# Altium footprint library TSOP (~0.6mm Pitch).PcbLib: 21 footprints (part 1 of 2)
Each footprint in its own frame and in the unit in brackets; x right, y up, seen from the top. Pads: shape width x height; smd on the part's side, far side on the other; paste and mask are expansions set on the pad; w line width, h text height; cw(c..) or ccw(c..) is an arc to the next point about the centre after c.
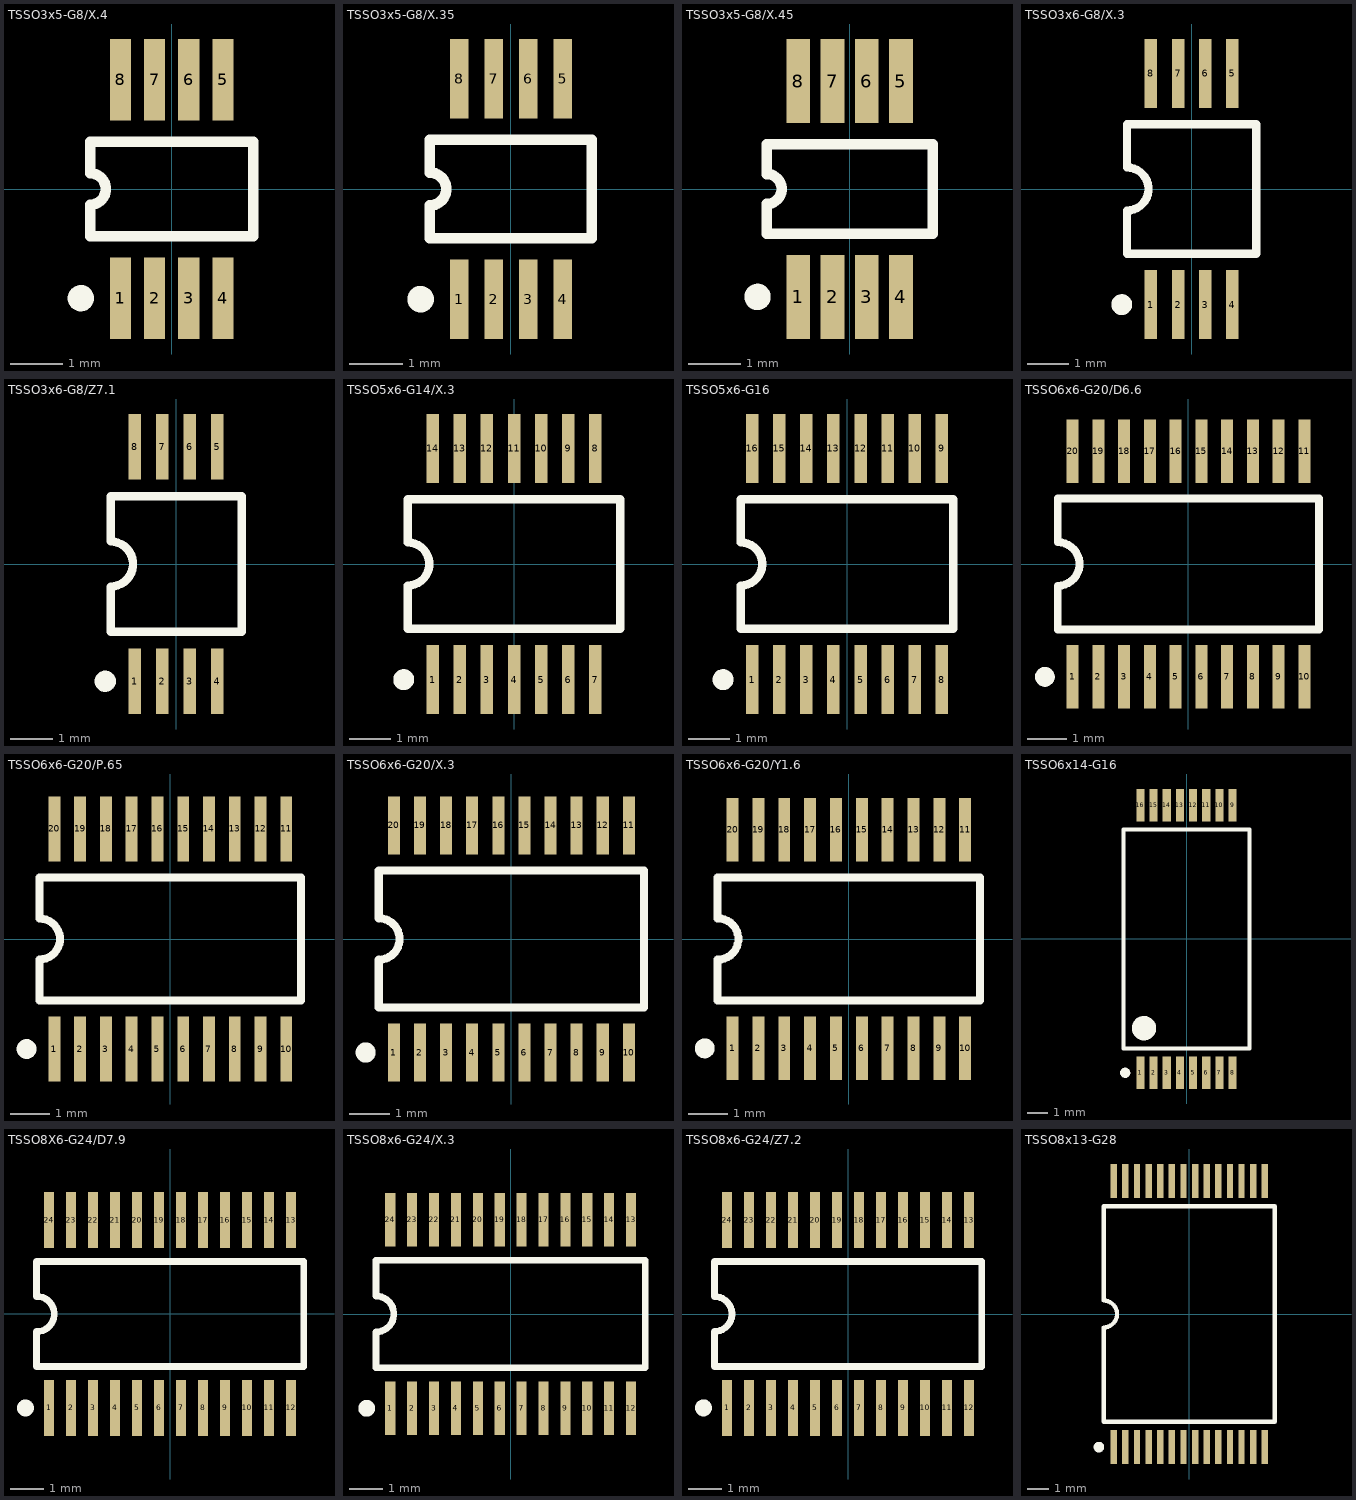
[diagram p0: the footprints below, top view; thin cyan lines are the x and y axes]

## TSSO3x5-G8/X.4 [mm] "Shrink Small Outline, MSOP; 8 Leads; Body Width 3 mm; Pitch 0.65 mm"
height 1.1
pads (8):
  rect 0.4x1.55 smd: 1(-0.975,-2.075) 2(-0.325,-2.075) 3(0.325,-2.075) 4(0.975,-2.075) 5(0.975,2.075) 6(0.325,2.075) 7(-0.325,2.075) 8(-0.975,2.075)
Top Overlay:
  circle w0.25: c-1.725,-2.075 r0.125
  lines w0.2: -1.55,-0.9 1.55,-0.9 1.55,0.9 -1.55,0.9 -1.55,0.3 cw(c-1.55,0) -1.55,-0.3 -1.55,-0.9

## TSSO3x5-G8/X.35 [mm] "Shrink Small Outline; 8 Leads; Body Width 3 mm; Pitch 0.65 mm"
height 1.11
pads (8):
  rect 0.35x1.5 smd: 1(-0.975,-2.075) 2(-0.325,-2.075) 3(0.325,-2.075) 4(0.975,-2.075) 5(0.975,2.075) 6(0.325,2.075) 7(-0.325,2.075) 8(-0.975,2.075)
Top Overlay:
  circle w0.25: c-1.7,-2.075 r0.125
  lines w0.2: -1.525,-0.925 1.525,-0.925 1.525,0.925 -1.525,0.925 -1.525,0.308 cw(c-1.525,0) -1.525,-0.308 -1.525,-0.925

## TSSO3x5-G8/X.45 [mm] "Shrink Small Outline; 8 Leads; Body Width 3 mm; Pitch 0.65 mm"
height 1.1
pads (8):
  rect 0.45x1.6 smd: 1(-0.975,-2.05) 2(-0.325,-2.05) 3(0.325,-2.05) 4(0.975,-2.05) 5(0.975,2.05) 6(0.325,2.05) 7(-0.325,2.05) 8(-0.975,2.05)
Top Overlay:
  circle w0.25: c-1.75,-2.05 r0.125
  lines w0.2: -1.575,-0.85 -1.575,-0.283 ccw(c-1.575,0) -1.575,0.283 -1.575,0.85 1.575,0.85 1.575,-0.85 -1.575,-0.85

## TSSO3x6-G8/X.3 [mm] "Shrink Small Outline; 8 Leads; Body Width 4.4 mm; Pitch 0.65 mm"
height 1.2
pads (8):
  rect 0.3x1.65 smd: 1(-0.975,-2.775) 2(-0.325,-2.775) 3(0.325,-2.775) 4(0.975,-2.775) 5(0.975,2.775) 6(0.325,2.775) 7(-0.325,2.775) 8(-0.975,2.775)
Top Overlay:
  circle w0.25: c-1.675,-2.775 r0.125
  lines w0.2: -1.55,-1.55 1.55,-1.55 1.55,1.55 -1.55,1.55 -1.55,0.517 cw(c-1.55,0) -1.55,-0.517 -1.55,-1.55

## TSSO3x6-G8/Z7.1 [mm] "Shrink Small Outline; 8 Leads; Body Width 4.4 mm; Pitch 0.65 mm"
height 1.1
pads (8):
  rect 0.3x1.55 smd: 1(-0.975,-2.775) 2(-0.325,-2.775) 3(0.325,-2.775) 4(0.975,-2.775) 5(0.975,2.775) 6(0.325,2.775) 7(-0.325,2.775) 8(-0.975,2.775)
Top Overlay:
  circle w0.25: c-1.675,-2.775 r0.125
  lines w0.2: -1.55,-1.6 1.55,-1.6 1.55,1.6 -1.55,1.6 -1.55,0.533 cw(c-1.55,0) -1.55,-0.533 -1.55,-1.6

## TSSO5x6-G14/X.3 [mm] "Shrink Small Outline, TSSOP; 14 Leads; Body Width 4.4 mm; Pitch 0.65 mm"
height 1.2
pads (14):
  rect 0.3x1.65 smd: 1(-1.95,-2.775) 2(-1.3,-2.775) 3(-0.65,-2.775) 4(0,-2.775) 5(0.65,-2.775) 6(1.3,-2.775) 7(1.95,-2.775) 8(1.95,2.775) 9(1.3,2.775) 10(0.65,2.775) 11(0,2.775) 12(-0.65,2.775) 13(-1.3,2.775) 14(-1.95,2.775)
Top Overlay:
  circle w0.25: c-2.65,-2.775 r0.125
  lines w0.2: -2.55,-1.55 2.55,-1.55 2.55,1.55 -2.55,1.55 -2.55,0.517 cw(c-2.55,0) -2.55,-0.517 -2.55,-1.55

## TSSO5x6-G16 [mm] "Shrink Small Outline; 16 Leads; Body Width 4.4 mm; Pitch 0.65 mm"
height 1.1
pads (16):
  rect 0.3x1.65 smd: 1(-2.275,-2.775) 2(-1.625,-2.775) 3(-0.975,-2.775) 4(-0.325,-2.775) 5(0.325,-2.775) 6(0.975,-2.775) 7(1.625,-2.775) 8(2.275,-2.775) 9(2.275,2.775) 10(1.625,2.775) 11(0.975,2.775) 12(0.325,2.775) 13(-0.325,2.775) 14(-0.975,2.775) 15(-1.625,2.775) 16(-2.275,2.775)
Top Overlay:
  circle w0.25: c-2.975,-2.775 r0.125
  lines w0.2: -2.55,-1.55 -2.55,-0.517 ccw(c-2.55,0) -2.55,0.517 -2.55,1.55 2.55,1.55 2.55,-1.55 -2.55,-1.55

## TSSO6x6-G20/D6.6 [mm] "Shrink Small Outline; 20 Leads; Body Width 4.4 mm; Pitch 0.65 mm"
height 1.1
pads (20):
  rect 0.3x1.6 smd: 1(-2.925,-2.85) 2(-2.275,-2.85) 3(-1.625,-2.85) 4(-0.975,-2.85) 5(-0.325,-2.85) 6(0.325,-2.85) 7(0.975,-2.85) 8(1.625,-2.85) 9(2.275,-2.85) 10(2.925,-2.85) 11(2.925,2.85) 12(2.275,2.85) 13(1.625,2.85) 14(0.975,2.85) 15(0.325,2.85) 16(-0.325,2.85) 17(-0.975,2.85) 18(-1.625,2.85) 19(-2.275,2.85) 20(-2.925,2.85)
Top Overlay:
  circle w0.25: c-3.625,-2.85 r0.125
  lines w0.2: -3.3,-1.65 -3.3,-0.55 ccw(c-3.3,0) -3.3,0.55 -3.3,1.65 3.3,1.65 3.3,-1.65 -3.3,-1.65

## TSSO6x6-G20/P.65 [mm] "Shrink Small Outline; 20 Leads; Body Width 4.4 mm; Pitch 0.65 mm"
height 1.2
pads (20):
  rect 0.3x1.65 smd: 1(-2.925,-2.775) 2(-2.275,-2.775) 3(-1.625,-2.775) 4(-0.975,-2.775) 5(-0.325,-2.775) 6(0.325,-2.775) 7(0.975,-2.775) 8(1.625,-2.775) 9(2.275,-2.775) 10(2.925,-2.775) 11(2.925,2.775) 12(2.275,2.775) 13(1.625,2.775) 14(0.975,2.775) 15(0.325,2.775) 16(-0.325,2.775) 17(-0.975,2.775) 18(-1.625,2.775) 19(-2.275,2.775) 20(-2.925,2.775)
Top Overlay:
  circle w0.25: c-3.625,-2.775 r0.125
  lines w0.2: -3.3,-1.55 -3.3,-0.517 ccw(c-3.3,0) -3.3,0.517 -3.3,1.55 3.3,1.55 3.3,-1.55 -3.3,-1.55

## TSSO6x6-G20/X.3 [mm] "Shrink Small Outline; 20 Leads; Body Width 4.4 mm; Pitch 0.65 mm"
height 1.2
pads (20):
  rect 0.3x1.45 smd: 1(-2.925,-2.825) 2(-2.275,-2.825) 3(-1.625,-2.825) 4(-0.975,-2.825) 5(-0.325,-2.825) 6(0.325,-2.825) 7(0.975,-2.825) 8(1.625,-2.825) 9(2.275,-2.825) 10(2.925,-2.825) 11(2.925,2.825) 12(2.275,2.825) 13(1.625,2.825) 14(0.975,2.825) 15(0.325,2.825) 16(-0.325,2.825) 17(-0.975,2.825) 18(-1.625,2.825) 19(-2.275,2.825) 20(-2.925,2.825)
Top Overlay:
  circle w0.25: c-3.625,-2.825 r0.125
  lines w0.2: -3.3,-0.52 -3.3,-1.7 3.3,-1.7 3.3,1.7 -3.3,1.7 -3.3,0.52 ; -3.3,-0.517 ccw(c-3.3,0) -3.3,0.517

## TSSO6x6-G20/Y1.6 [mm] "Shrink Small Outline; 20 Leads; Body Width 4.4 mm; Pitch 0.65 mm"
height 1.1
pads (20):
  rect 0.3x1.6 smd: 1(-2.925,-2.75) 2(-2.275,-2.75) 3(-1.625,-2.75) 4(-0.975,-2.75) 5(-0.325,-2.75) 6(0.325,-2.75) 7(0.975,-2.75) 8(1.625,-2.75) 9(2.275,-2.75) 10(2.925,-2.75) 11(2.925,2.75) 12(2.275,2.75) 13(1.625,2.75) 14(0.975,2.75) 15(0.325,2.75) 16(-0.325,2.75) 17(-0.975,2.75) 18(-1.625,2.75) 19(-2.275,2.75) 20(-2.925,2.75)
Top Overlay:
  circle w0.25: c-3.625,-2.75 r0.125
  lines w0.2: -3.3,-1.55 3.3,-1.55 3.3,1.55 -3.3,1.55 -3.3,0.52 cw(c-3.3,0) -3.3,-0.52 -3.3,-1.55

## TSSO6x14-G16 [mm] "Shrink Small Outline; 16 Leads; Body Width 12.4 mm; Pitch 0.65 mm"
height 1.27
pads (16):
  rect 0.4x1.6 smd: 1(-2.275,-6.6) 2(-1.625,-6.6) 3(-0.975,-6.6) 4(-0.325,-6.6) 5(0.325,-6.6) 6(0.975,-6.6) 7(1.625,-6.6) 8(2.275,-6.6) 9(2.275,6.6) 10(1.625,6.6) 11(0.975,6.6) 12(0.325,6.6) 13(-0.325,6.6) 14(-0.975,6.6) 15(-1.625,6.6) 16(-2.275,6.6)
Top Overlay:
  circle w0.6: c-2.1,-4.4 r0.3
  circle w0.25: c-3.025,-6.6 r0.125
  lines w0.2: -3.1,-5.4 3.1,-5.4 3.1,5.4 -3.1,5.4 -3.1,-0.635 -3.1,-5.4

## TSSO8X6-G24/D7.9 [mm]
pads (24):
  rect 0.3x1.65 smd: 1(-3.575,-2.775) 2(-2.925,-2.775) 3(-2.275,-2.775) 4(-1.625,-2.775) 5(-0.975,-2.775) 6(-0.325,-2.775) 7(0.325,-2.775) 8(0.975,-2.775) 9(1.625,-2.775) 10(2.275,-2.775) 11(2.925,-2.775) 12(3.575,-2.775) 13(3.575,2.775) 14(2.925,2.775) 15(2.275,2.775) 16(1.625,2.775) 17(0.975,2.775) 18(0.325,2.775) 19(-0.325,2.775) 20(-0.975,2.775) 21(-1.625,2.775) 22(-2.275,2.775) 23(-2.925,2.775) 24(-3.575,2.775)
Top Overlay:
  circle w0.25: c-4.275,-2.775 r0.125
  lines w0.2: -3.95,-0.52 -3.95,-1.55 3.95,-1.55 3.95,1.55 -3.95,1.55 -3.95,0.52 ; -3.943,-0.52 ccw(c-3.943,0) -3.943,0.52

## TSSO8x6-G24/X.3 [mm] "Shrink Small Outline; 24 Leads; Body Width 4.4 mm; Pitch 0.65 mm"
height 1.1
pads (24):
  rect 0.3x1.6 smd: 1(-3.575,-2.8) 2(-2.925,-2.8) 3(-2.275,-2.8) 4(-1.625,-2.8) 5(-0.975,-2.8) 6(-0.325,-2.8) 7(0.325,-2.8) 8(0.975,-2.8) 9(1.625,-2.8) 10(2.275,-2.8) 11(2.925,-2.8) 12(3.575,-2.8) 13(3.575,2.8) 14(2.925,2.8) 15(2.275,2.8) 16(1.625,2.8) 17(0.975,2.8) 18(0.325,2.8) 19(-0.325,2.8) 20(-0.975,2.8) 21(-1.625,2.8) 22(-2.275,2.8) 23(-2.925,2.8) 24(-3.575,2.8)
Top Overlay:
  circle w0.25: c-4.275,-2.8 r0.125
  lines w0.2: -4,-1.6 -4,-0.533 ccw(c-4,0) -4,0.533 -4,1.6 4,1.6 4,-1.6 -4,-1.6

## TSSO8x6-G24/Z7.2 [mm] "Shrink Small Outline; 24 Leads; Body Width 4.4 mm; Pitch 0.65 mm"
height 1.1
pads (24):
  rect 0.3x1.65 smd: 1(-3.575,-2.775) 2(-2.925,-2.775) 3(-2.275,-2.775) 4(-1.625,-2.775) 5(-0.975,-2.775) 6(-0.325,-2.775) 7(0.325,-2.775) 8(0.975,-2.775) 9(1.625,-2.775) 10(2.275,-2.775) 11(2.925,-2.775) 12(3.575,-2.775) 13(3.575,2.775) 14(2.925,2.775) 15(2.275,2.775) 16(1.625,2.775) 17(0.975,2.775) 18(0.325,2.775) 19(-0.325,2.775) 20(-0.975,2.775) 21(-1.625,2.775) 22(-2.275,2.775) 23(-2.925,2.775) 24(-3.575,2.775)
Top Overlay:
  circle w0.25: c-4.275,-2.775 r0.125
  lines w0.2: -3.95,-1.55 -3.95,-0.517 ccw(c-3.95,0) -3.95,0.517 -3.95,1.55 3.95,1.55 3.95,-1.55 -3.95,-1.55

## TSSO8x13-G28 [mm] "Shrink Small Outline; 28 Leads; Body Width 11.8 mm; Pitch 0.55 mm"
height 1.2
pads (28):
  rect 0.3x1.6 smd: 1(-3.575,-6.3) 2(-3.025,-6.3) 3(-2.475,-6.3) 4(-1.925,-6.3) 5(-1.375,-6.3) 6(-0.825,-6.3) 7(-0.275,-6.3) 8(0.275,-6.3) 9(0.825,-6.3) 10(1.375,-6.3) 11(1.925,-6.3) 12(2.475,-6.3) 13(3.025,-6.3) 14(3.575,-6.3) 15(3.575,6.3) 16(3.025,6.3) 17(2.475,6.3) 18(1.925,6.3) 19(1.375,6.3) 20(0.825,6.3) 21(0.275,6.3) 22(-0.275,6.3) 23(-0.825,6.3) 24(-1.375,6.3) 25(-1.925,6.3) 26(-2.475,6.3) 27(-3.025,6.3) 28(-3.575,6.3)
Top Overlay:
  circle w0.25: c-4.275,-6.3 r0.125
  lines w0.2: -4.05,-5.1 4.05,-5.1 4.05,5.1 -4.05,5.1 -4.05,0.635 cw(c-4.05,0) -4.05,-0.635 -4.05,-5.1